# EAGLE library part TTP223-BA6 (library tshome_touch)
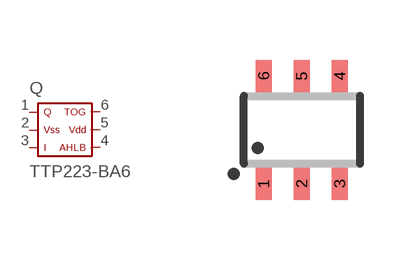
[diagram p0: symbol with the pads of TTP223B; footprint TTP223B]

Designator prefix Q

## TTP223-BA6  [TTP223B]
1  P$1  out
2  P$2  pwr
3  P$3  in
4  P$4
5  P$5  pwr
6  P$6

## Footprint TTP223B (pad centres in mm)
smd 0.4 x 0.8: 1 -0.95,-1.35; 2 0,-1.35; 3 0.95,-1.35; 4 0.95,1.35; 5 0,1.35; 6 -0.95,1.35